# Altium schematic symbol library U_TPS82698SIPR.SchLib: 1 symbol
Pins are listed as number, name and electrical type; pins without a type are passive.

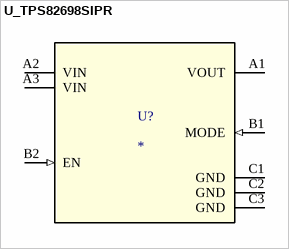
[diagram p0: symbol U_TPS82698SIPR]

## U_TPS82698SIPR
designator U?
Mfr_Name: Texas Instruments; TYPE: TYPE; RefDes: RefDes
footprint SIP0008A
pins: A1 VOUT (power), A2 VIN (power), A3 VIN (power), B1 MODE (in), B2 EN (in), C1 GND (power), C2 GND (power), C3 GND (power)